# EAGLE library part ADUM1401 (library ADuM1401)
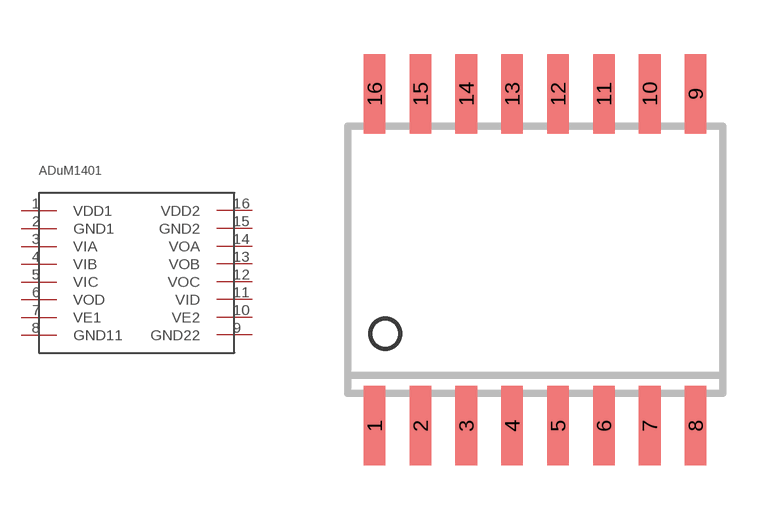
[diagram p0: symbol with the pads of SO16; footprint SO16]

Designator prefix -

## ADUM1401  [SO16]
1  VDD1
2  GND1
3  VIA
4  VIB
5  VIC
6  VOD
7  VE1
8  GND11
9  GND22
10  VE2
11  VID
12  VOC
13  VOB
14  VOA
15  GND2
16  VDD2

## Footprint SO16 (pad centres in mm)
smd 0.6 x 2.2: 1 1.905,1.75; 2 3.175,1.75; 3 4.445,1.75; 4 5.715,1.75; 5 6.985,1.75; 6 8.255,1.75; 7 9.525,1.75; 8 10.795,1.75; 9 10.795,10.95; 10 9.525,10.95; 11 8.255,10.95; 12 6.985,10.95; 13 5.715,10.95; 14 4.445,10.95; 15 3.175,10.95; 16 1.905,10.95